# Altium schematic symbol library OPL_Crystal Oscillator.SCHLIB: 9 symbols
Pins are listed as number, name and electrical type; pins without a type are passive.

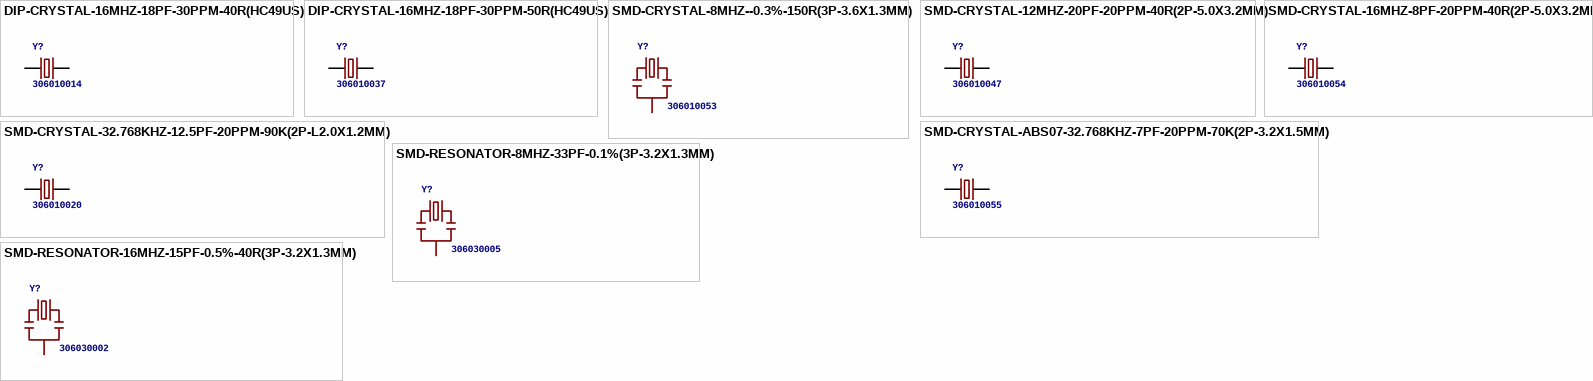
[diagram p0: symbols DIP-CRYSTAL-16MHZ-18PF-30PPM-40R(HC49US) to SMD-RESONATOR-16MHZ-15PF-0.5%-40R(3P-3.2X1.3MM)]

## DIP-CRYSTAL-16MHZ-18PF-30PPM-40R(HC49US)
designator Y?, comment 306010014
MPN: HC-49US    16.000MHz
footprint HC49US
pins: 1, 2

## DIP-CRYSTAL-16MHZ-18PF-30PPM-50R(HC49US)
designator Y?, comment 306010037
MPN: 49S/18PF
footprint HC49US
pins: 1, 2

## SMD-CRYSTAL-8MHZ--0.3%-150R(3P-3.6X1.3MM)
designator Y?, comment 306010053
footprint X3-SMD-3.6X1.3X0.8MM
pins: 1, 2, 3

## SMD-CRYSTAL-12MHZ-20PF-20PPM-40R(2P-5.0X3.2MM)
designator Y?, comment 306010047
MPN: 5032/2P
footprint X2-SMD-5.0X3.2X1.3MM
pins: 1, 2

## SMD-CRYSTAL-16MHZ-8PF-20PPM-40R(2P-5.0X3.2MM)
designator Y?, comment 306010054
MPN: X053201602002
footprint X2-SMD-5.0X3.2X1.3MM
pins: 1, 2

## SMD-CRYSTAL-32.768KHZ-12.5PF-20PPM-90K(2P-L2.0X1.2MM)
designator Y?, comment 306010020
MPN: FC-12M
footprint X2-SMD-L2.0X1.2X0.55MM
pins: 1, 2

## SMD-CRYSTAL-ABS07-32.768KHZ-7PF-20PPM-70K(2P-3.2X1.5MM)
designator Y?, comment 306010055
MPN: FC-135
footprint X2-SMD-3.2X1.5X0.55MM
pins: 1, 2

## SMD-RESONATOR-8MHZ-33PF-0.1%(3P-3.2X1.3MM)
designator Y?, comment 306030005
MPN: CSTCE8M00G15L99-R0
footprint X3-SMD-3.6X1.3X0.8MM
pins: 1, 2, 3

## SMD-RESONATOR-16MHZ-15PF-0.5%-40R(3P-3.2X1.3MM)
designator Y?, comment 306030002
MPN: CSTCE16M0V53-R0
footprint X3-SMD-3.6X1.3X0.8MM
pins: 1, 2, 3